# EAGLE library part MAX485 (library digikey)
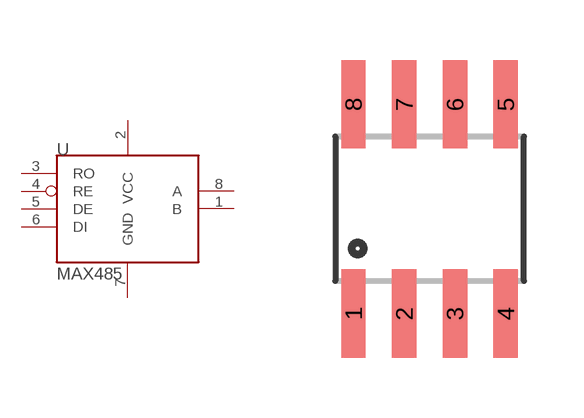
[diagram p9: symbol with the pads of SOIC8; footprint SOIC8]

Designator prefix -

## MAX485SOIC8  [SOIC8]
1  B
2  VCC
3  RO
4  RE
5  DE
6  DI
7  GND
8  A

## Footprint SOIC8 (pad centres in mm)
smd 0.61 x 2.21: 1 -1.905,-2.616; 2 -0.635,-2.616; 3 0.635,-2.616; 4 1.905,-2.616; 5 1.905,2.616; 6 0.635,2.616; 7 -0.635,2.616; 8 -1.905,2.616